# Altium integrated library Linear Technology Power Management Switching Regulator LTC1174-LTC3901.IntLib: 2647 symbols (part 45 of 364)
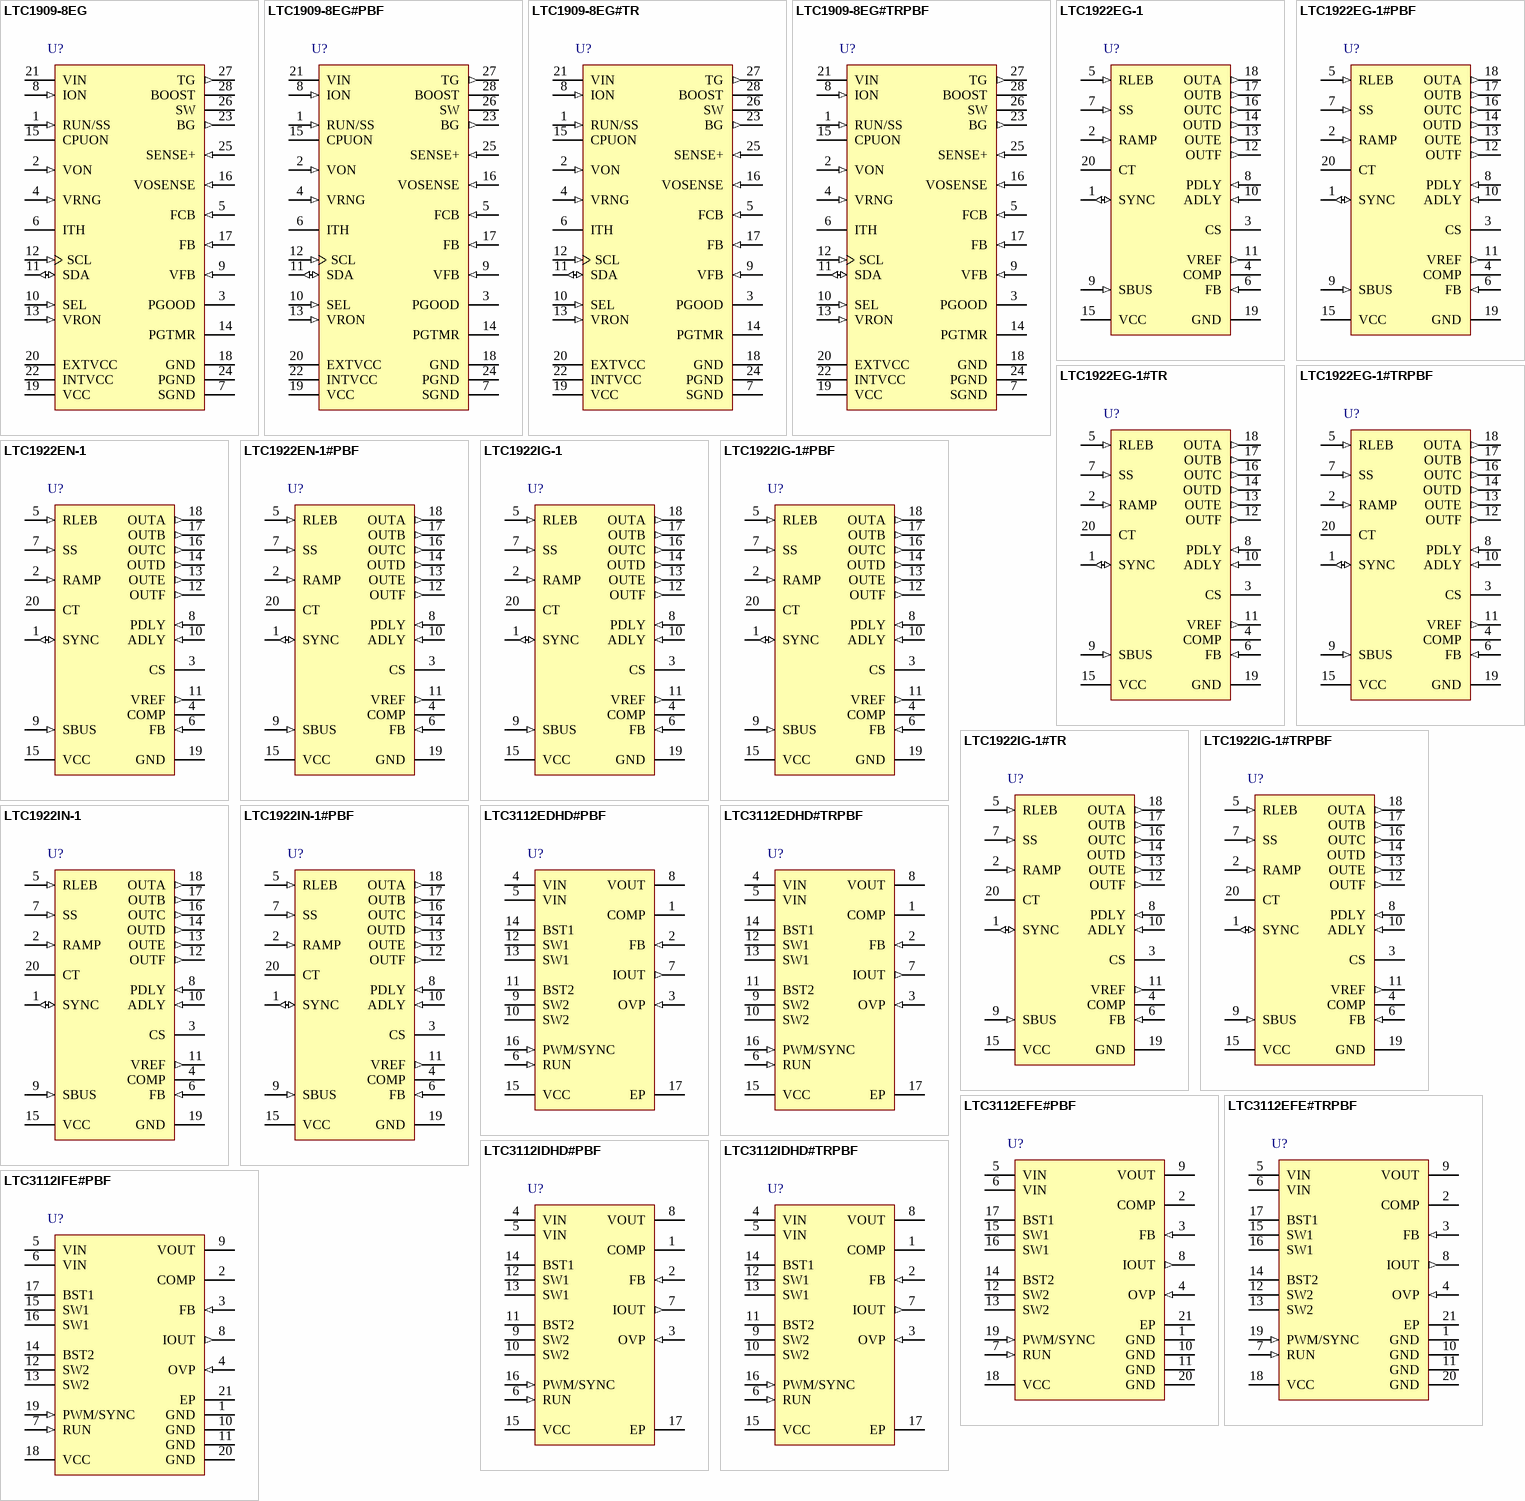
[diagram p238: symbols LTC1909-8EG to LTC3112IFE#PBF]

## LTC3112IDHD#TRPBF
designator U?
2.5 A Synchronous Buck-Boost DC/DC Converter, 16-pin SON (DHD-16), -40 to 125 degC, Pb-Free, Tape and Reel; Manufacturer: Linear Technology; PartNumber: LTC3112IDHD#TRPBF; Frequency Sync Range: 300kHz - 1.5MHz; Number of Outputs: 1; DatasheetVersion: Rev. A; PackageVersion: Jun-10; PackageReference: DHD-16; PackageDescription: 16-Pin Plastic DFN, Body 5 x 4 mm, Pitch 0.5 mm; Supplier 1: Digi-Key; Supplier Part Number 1: LTC3112IDHD#TRPBF-ND; Supplier 2: Newark; Supplier Part Number 2: 59T5589; Packing: Tape and Reel; RoHS: TRUE; Mounting Technology: Surface Mount; Code_JEDEC: MO-229; ComponentLink1Description: Manufacturer URL; ComponentLink1URL: http://www.linear.com/; ComponentLink2Description: Datasheet; ComponentLink2URL: http://cds.linear.com/docs/en/datasheet/3112fa.pdf; ComponentLink3Description: Package Specification; ComponentLink3URL: http://cds.linear.com/docs/en/packaging/DFN_16_05-08-1707.pdf
footprint LT-DHD-16_V (SON, 16-Leads, Body 5x4mm, Pitch 0.5mm, Thermal Pad 4.34x2.44mm)
pins: 1 COMP "Error Amp Output. An R-C network connected from this pin to FB sets the loop compensation for the voltage converter.", 2 FB (in) "Feedback Voltage Input. Connect VOUT resistor divider tap to this pin. The output voltage can be adjusted from 2.5V to 14V by the following equation:VOUT = 0.8V?(1+ R1/R2),where R1 is the resistor between VOUT and FB an(See Datasheet)", 3 OVP (in) "Overvoltage Protection Input. The common point of a resistor divider between VOUT and GND can also be used to program the overvoltage protection to a lower voltage by the following equation:VOVP = 0.83V?1+ R3/R4),where R(See Datasheet)", 4 VIN (power) "Input Supply Voltage. This pin should be bypassed to the ground plane with at least 10uF of low ESR, low ESL ceramic capacitance. Place this capacitor as close to the pin as possible and have as short a return path to the (See Datasheet)", 5 VIN (power) "Input Supply Voltage. This pin should be bypassed to the ground plane with at least 10uF of low ESR, low ESL ceramic capacitance. Place this capacitor as close to the pin as possible and have as short a return path to the (See Datasheet)", 6 RUN (in) "Shutdown Control Input. Operation will be disabled when the voltage is forced below 0.75V (typical) and less than 1uA of quiescent current will be consumed.", 7 IOUT (out) "A Current approximately 24uA/A of the D Switch Output Current is Sourced from this Pin. An R-C circuit can be used to control the average output current or provide an analog output current monitor (see Applications (See Datasheet)", 8 VOUT (power) "Regulated Output Voltage. This pin should be connected to a low ESR ceramic capacitor of at least 47uF. The capacitor should be placed as close to the pin as possible and have a short return to the ground plane.", 9 SW2 "Internal switches C and D and the external inductor are connected here.", 10 SW2 "Internal switches C and D and the external inductor are connected here.", 11 BST2 "Boosted Floating Driver Supply for D-Switch Driver. Connect a 0.1uF capacitor from this pin to SW2.", 12 SW1 "Internal switches A and B and the external inductor are connected here.", 13 SW1 "Internal switches A and B and the external inductor are connected here.", 14 BST1 "Boosted Floating Driver Supply for A-Switch Driver. Connect a 0.1uF capacitor from this pin to SW1.", 15 VCC (power) "External Capacitor Connection for the Regulated VCC Supply. This supply is used to operate internal circuitry and switch drivers. VCC will track VIN up to 4.2V, but will maintain this voltage when VIN > 4.2V. Connect a 1uF (See Datasheet)", 16 PWM/SYNC (in), 17 EP (power) "Ground. Small-Signal and Power Ground for the IC. The exposed pad must be soldered to the PCB and electrically connected to ground through the shortest and lowest impedance connection possible. The bulk of the heat flow is (See Datasheet)"

## LTC3112IFE#PBF
designator U?
2.5 A Synchronous Buck-Boost DC/DC Converter, 20-pin SOP (FE-20-EPV-CA), -40 to 125 degC, Pb-Free; Manufacturer: Linear Technology; PartNumber: LTC3112IFE#PBF; Frequency Sync Range: 300kHz - 1.5MHz; Number of Outputs: 1; DatasheetVersion: Rev. A; PackageVersion: Rev. I, 05/2011; PackageReference: FE-20; PackageDescription: 20-Pin Plastic TSSOP, Body 6.5 x 4.4 mm, Pitch 0.65 mm; Supplier 1: Digi-Key; Supplier Part Number 1: LTC3112IFE#PBF-ND; Supplier 2: Farnell; Supplier Part Number 2: 2295021; Supplier 3: Newark; Supplier Part Number 3: 29T6033; RoHS: TRUE; Mounting Technology: Surface Mount; ComponentLink1Description: Manufacturer URL; ComponentLink1URL: http://www.linear.com/; ComponentLink2Description: Datasheet; ComponentLink2URL: http://cds.linear.com/docs/en/datasheet/3112fa.pdf; ComponentLink3Description: Package Specification; ComponentLink3URL: http://cds.linear.com/docs/en/packaging/05081663__JFE20(CA).pdf
footprint LT-FE-20-EPV-CA_N (SOP, 20-Leads, Body 6.6x4.5mm, Pitch 0.65mm, Thermal Pad 4.95x2.74mm, IPC Medium Density)
footprint LT-FE-20-EPV-CA_L (SOP, 20-Leads, Body 6.6x4.5mm, Pitch 0.65mm, Thermal Pad 4.95x2.74mm, IPC High Density)
footprint LT-FE-20-EPV-CA_M (SOP, 20-Leads, Body 6.6x4.5mm, Pitch 0.65mm, Thermal Pad 4.95x2.74mm, IPC Low Density)
pins: 1 GND (power) "Ground. Small-Signal and Power Ground for the IC.", 2 COMP "Error Amp Output. An R-C network connected from this pin to FB sets the loop compensation for the voltage converter.", 3 FB (in) "Feedback Voltage Input. Connect VOUT resistor divider tap to this pin. The output voltage can be adjusted from 2.5V to 14V by the following equation: VOUT = 0.8V? (1+R1/R2) where R1 is the resistor between VOUT and FB an(See Datasheet)", 4 OVP (in) "Overvoltage Protection Input. The common point of a resistor divider between VOUT and GND can also be used to program the overvoltage protection to a lower voltage by the following equation: VOVP = 0.83V? (1+R3/R4) wher(See Datasheet)", 5 VIN (power) "Input Supply Voltage. This pin should be bypassed to the ground plane with at least 10uF of low ESR, low ESL ceramic capacitance. Place this capacitor as close to the pin as possible and have as short a return path to the (See Datasheet)", 6 VIN (power) "Input Supply Voltage. This pin should be bypassed to the ground plane with at least 10uF of low ESR, low ESL ceramic capacitance. Place this capacitor as close to the pin as possible and have as short a return path to the (See Datasheet)", 7 RUN (in) "Shutdown Control Input. Operation will be disabled when the voltage is forced below 0.75V (typical) and less than 1uA of quiescent current will be consumed.", 8 IOUT (out) "A Current approximately 24uA/A of the D Switch Output Current is Sourced from this Pin. An R-C circuit can be used to control the average output current or provide an analog output current monitor (see Applications (See Datasheet)", 9 VOUT (power) "Regulated Output Voltage. This pin should be connected to a low ESR ceramic capacitor of at least 47uF. The capacitor should be placed as close to the pin as possible and have a short return to the ground plane.", 10 GND (power) "Ground. Small-Signal and Power Ground for the IC.", 11 GND (power) "Ground. Small-Signal and Power Ground for the IC.", 12 SW2 "Internal switches C and D and the external inductor are connected here.", 13 SW2 "Internal switches C and D and the external inductor are connected here.", 14 BST2 "Boosted Floating Driver Supply for D-Switch Driver. Connect a 0.1uF capacitor from this pin to SW2.", 15 SW1 "Internal switches A and B and the external inductor are connected here.", 16 SW1 "Internal switches A and B and the external inductor are connected here.", 17 BST1 "Boosted Floating Driver Supply for A-Switch Driver. Connect a 0.1uF capacitor from this pin to SW1.", 18 VCC (power) "External Capacitor Connection for the Regulated VCC Supply. This supply is used to operate internal circuitry and switch drivers. VCC will track VIN up to 4.2V, but will maintain this voltage when VIN > 4.2V. Connect a 1uF (See Datasheet)", 19 PWM/SYNC (in) "Burst Mode Control and Synchronization Input. A DC voltage <0.5V commands Burst Mode operation, >1.5V commands 750kHz fixed frequency mode. A digital pulse train between 300kHz and 1500kHz applied to this pin will override (See Datasheet)", 20 GND (power) "Ground. Small-Signal and Power Ground for the IC.", 21 EP (power) "The exposed pad must be soldered to the PCB and electrically connected to ground through the shortest and lowest impedance connection possible. The bulk of the heat flow is through this pad, so printed circuit board design (See Datasheet)"

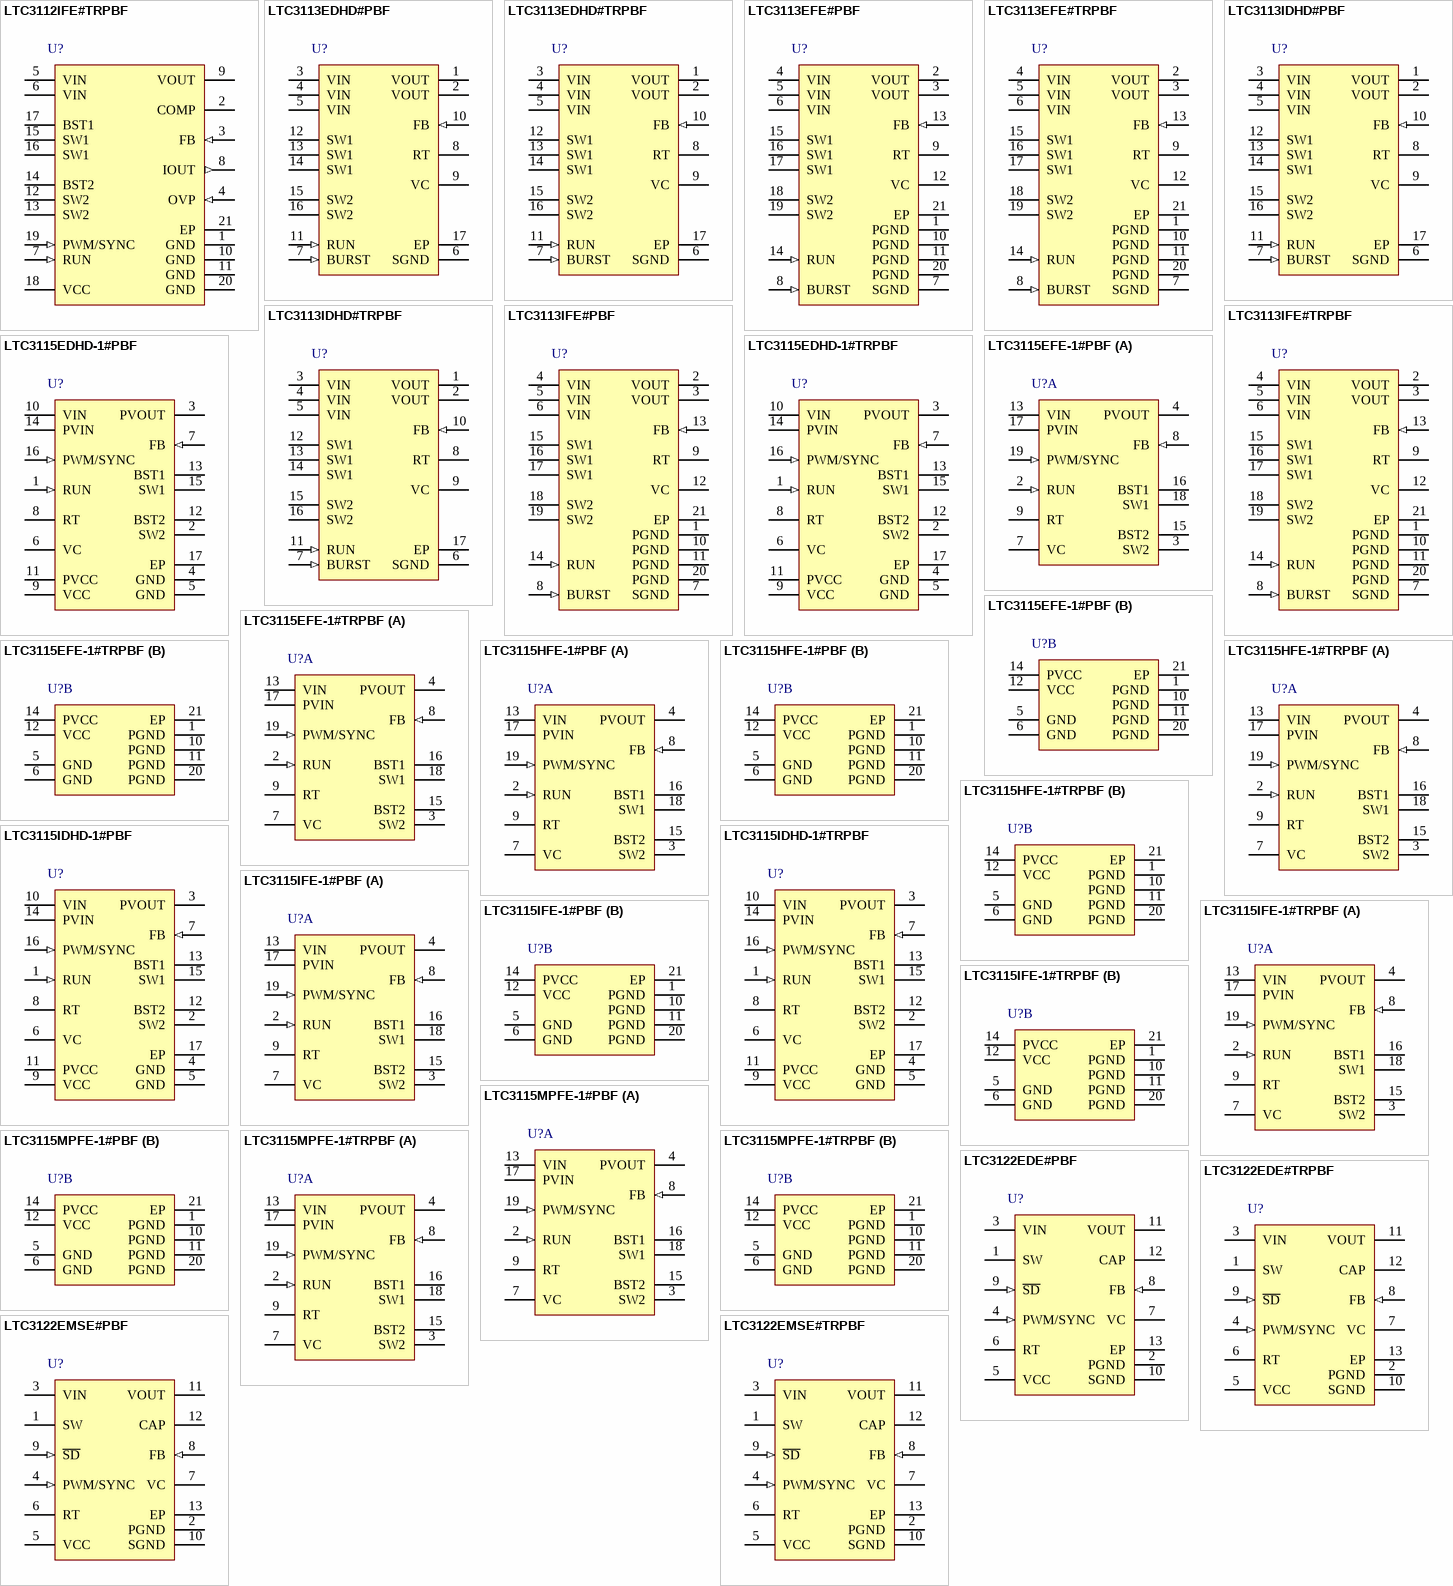
[diagram p14: symbols LTC3112IFE#TRPBF to LTC3122EMSE#TRPBF]

## LTC3112IFE#TRPBF
designator U?
2.5 A Synchronous Buck-Boost DC/DC Converter, 20-pin SOP (FE-20-EPV-CA), -40 to 125 degC, Pb-Free, Tape and Reel; Manufacturer: Linear Technology; PartNumber: LTC3112IFE#TRPBF; Frequency Sync Range: 300kHz - 1.5MHz; Number of Outputs: 1; DatasheetVersion: Rev. A; PackageVersion: Rev. I, 05/2011; PackageReference: FE-20; PackageDescription: 20-Pin Plastic TSSOP, Body 6.5 x 4.4 mm, Pitch 0.65 mm; Supplier 1: Digi-Key; Supplier Part Number 1: LTC3112IFE#TRPBF-ND; Packing: Tape and Reel; RoHS: TRUE; Mounting Technology: Surface Mount; ComponentLink1Description: Manufacturer URL; ComponentLink1URL: http://www.linear.com/; ComponentLink2Description: Datasheet; ComponentLink2URL: http://cds.linear.com/docs/en/datasheet/3112fa.pdf; ComponentLink3Description: Package Specification; ComponentLink3URL: http://cds.linear.com/docs/en/packaging/05081663__JFE20(CA).pdf
footprint LT-FE-20-EPV-CA_N (SOP, 20-Leads, Body 6.6x4.5mm, Pitch 0.65mm, Thermal Pad 4.95x2.74mm, IPC Medium Density)
footprint LT-FE-20-EPV-CA_L (SOP, 20-Leads, Body 6.6x4.5mm, Pitch 0.65mm, Thermal Pad 4.95x2.74mm, IPC High Density)
footprint LT-FE-20-EPV-CA_M (SOP, 20-Leads, Body 6.6x4.5mm, Pitch 0.65mm, Thermal Pad 4.95x2.74mm, IPC Low Density)
pins: 1 GND (power) "Ground. Small-Signal and Power Ground for the IC.", 2 COMP "Error Amp Output. An R-C network connected from this pin to FB sets the loop compensation for the voltage converter.", 3 FB (in) "Feedback Voltage Input. Connect VOUT resistor divider tap to this pin. The output voltage can be adjusted from 2.5V to 14V by the following equation: VOUT = 0.8V? (1+R1/R2) where R1 is the resistor between VOUT and FB an(See Datasheet)", 4 OVP (in) "Overvoltage Protection Input. The common point of a resistor divider between VOUT and GND can also be used to program the overvoltage protection to a lower voltage by the following equation: VOVP = 0.83V? (1+R3/R4) wher(See Datasheet)", 5 VIN (power) "Input Supply Voltage. This pin should be bypassed to the ground plane with at least 10uF of low ESR, low ESL ceramic capacitance. Place this capacitor as close to the pin as possible and have as short a return path to the (See Datasheet)", 6 VIN (power) "Input Supply Voltage. This pin should be bypassed to the ground plane with at least 10uF of low ESR, low ESL ceramic capacitance. Place this capacitor as close to the pin as possible and have as short a return path to the (See Datasheet)", 7 RUN (in) "Shutdown Control Input. Operation will be disabled when the voltage is forced below 0.75V (typical) and less than 1uA of quiescent current will be consumed.", 8 IOUT (out) "A Current approximately 24uA/A of the D Switch Output Current is Sourced from this Pin. An R-C circuit can be used to control the average output current or provide an analog output current monitor (see Applications (See Datasheet)", 9 VOUT (power) "Regulated Output Voltage. This pin should be connected to a low ESR ceramic capacitor of at least 47uF. The capacitor should be placed as close to the pin as possible and have a short return to the ground plane.", 10 GND (power) "Ground. Small-Signal and Power Ground for the IC.", 11 GND (power) "Ground. Small-Signal and Power Ground for the IC.", 12 SW2 "Internal switches C and D and the external inductor are connected here.", 13 SW2 "Internal switches C and D and the external inductor are connected here.", 14 BST2 "Boosted Floating Driver Supply for D-Switch Driver. Connect a 0.1uF capacitor from this pin to SW2.", 15 SW1 "Internal switches A and B and the external inductor are connected here.", 16 SW1 "Internal switches A and B and the external inductor are connected here.", 17 BST1 "Boosted Floating Driver Supply for A-Switch Driver. Connect a 0.1uF capacitor from this pin to SW1.", 18 VCC (power) "External Capacitor Connection for the Regulated VCC Supply. This supply is used to operate internal circuitry and switch drivers. VCC will track VIN up to 4.2V, but will maintain this voltage when VIN > 4.2V. Connect a 1uF (See Datasheet)", 19 PWM/SYNC (in) "Burst Mode Control and Synchronization Input. A DC voltage <0.5V commands Burst Mode operation, >1.5V commands 750kHz fixed frequency mode. A digital pulse train between 300kHz and 1500kHz applied to this pin will override (See Datasheet)", 20 GND (power) "Ground. Small-Signal and Power Ground for the IC.", 21 EP (power) "The exposed pad must be soldered to the PCB and electrically connected to ground through the shortest and lowest impedance connection possible. The bulk of the heat flow is through this pad, so printed circuit board design (See Datasheet)"